# Altium footprint library MSK-12C01-07.PcbLib: 1 footprints
Each footprint in its own frame and in the unit in brackets; x right, y up, seen from the top. Pads: shape width x height; smd on the part's side, far side on the other; paste and mask are expansions set on the pad; w line width, h text height; cw(c..) or ccw(c..) is an arc to the next point about the centre after c.
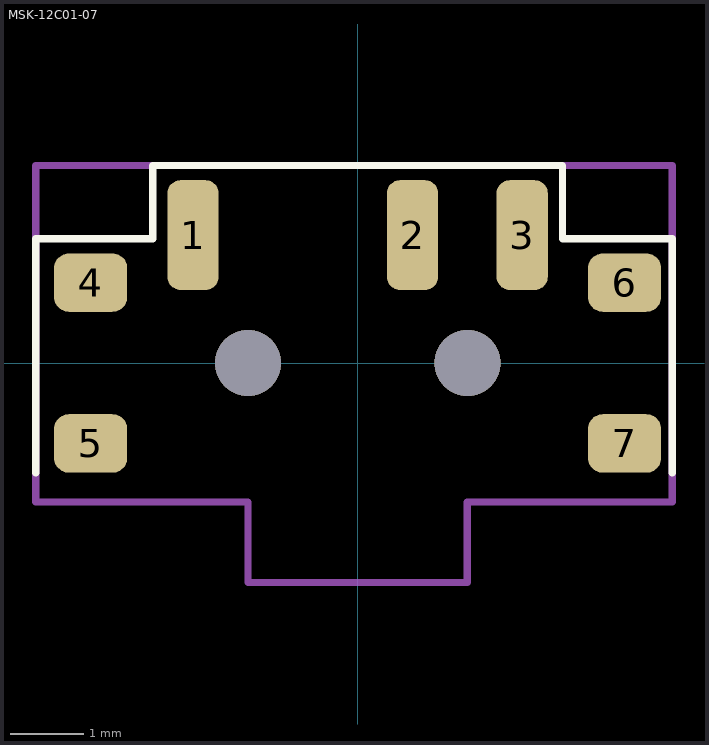
[diagram p0: the footprint, top view; thin cyan lines are the x and y axes]

## MSK-12C01-07 [mm]
pads (7):
  rrect50% 0.7x1.5 smd mask+0.05: 1(-2.25,1.75) 2(0.75,1.75) 3(2.25,1.75)
  rrect50% 1x0.8 smd mask+0.05: 4(-3.65,1.1) 5(-3.65,-1.1) 6(3.65,1.1) 7(3.65,-1.1)
via 1.5,0 diameter 0.9 hole 0.9
via -1.5,0 diameter 0.9 hole 0.9
Top Overlay:
  lines w0.1: -4.4,-1.5 -4.4,1.7 -2.8,1.7 -2.8,2.7 2.8,2.7 2.8,1.7 4.3,1.7 4.3,-1.5
Top Assembly:
  lines w0.1: -4.4,-1.9 -4.4,2.7 -4.3,2.7 4.3,2.7 4.3,1.1 4.3,-1.9 1.5,-1.9 1.5,-3 -1.5,-3 -1.5,-1.9 -4.4,-1.9
Top Courtyard:
  lines w0.1: -4.4,-1.9 -4.4,2.7 -4.3,2.7 4.3,2.7 4.3,1.1 4.3,-1.9 1.5,-1.9 1.5,-3 -1.5,-3 -1.5,-1.9 -4.4,-1.9
3D body "User Library-Slide-SW_SPDT.step": height 1.5, standoff -0.45, extent -3.95,-2.9 3.95,2.495